# Altium footprint library C.PcbLib: 24 footprints (part 2 of 2)
Each footprint in its own frame and in the unit in brackets; x right, y up, seen from the top. Pads: shape width x height; smd on the part's side, far side on the other; paste and mask are expansions set on the pad; w line width, h text height; cw(c..) or ccw(c..) is an arc to the next point about the centre after c.
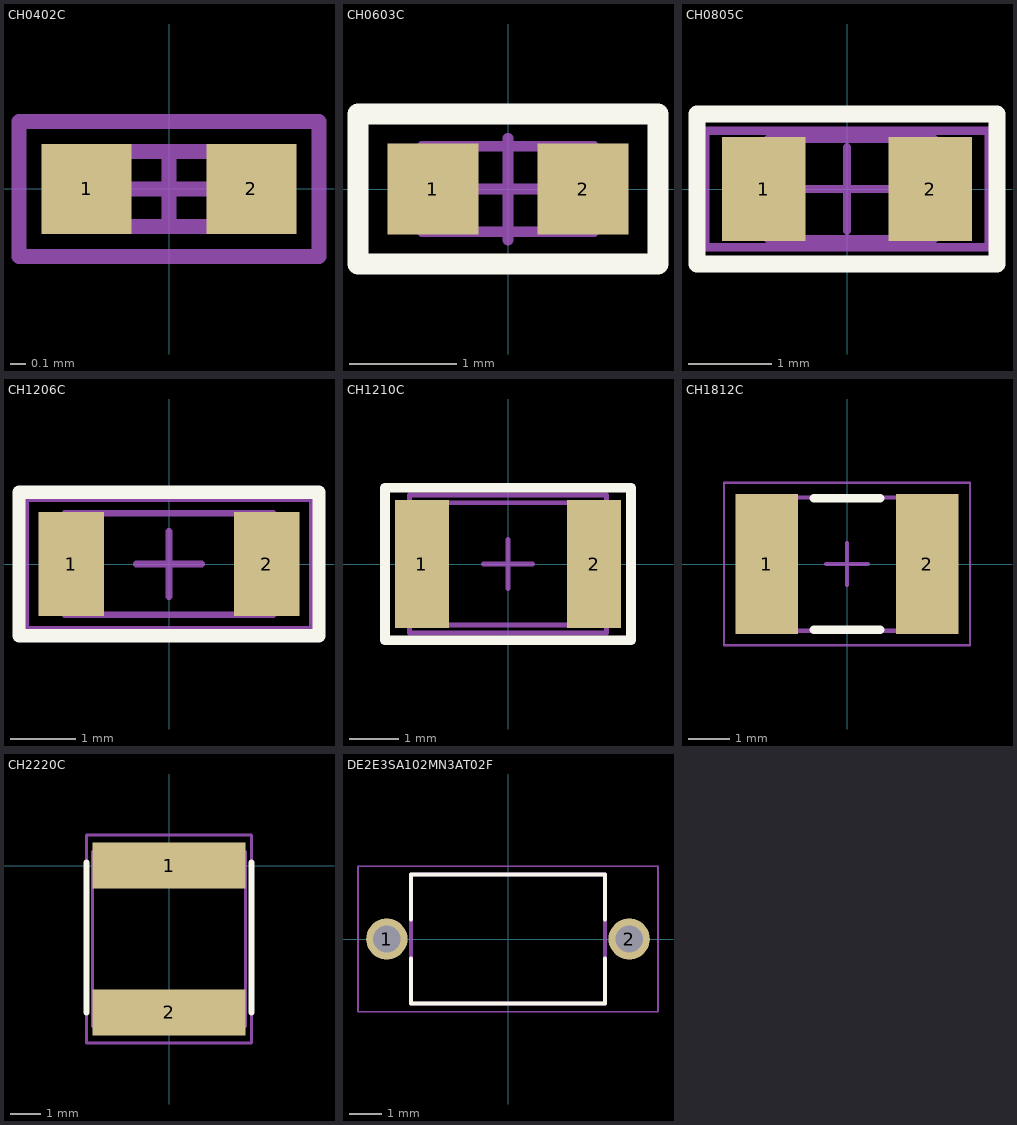
[diagram p1: the footprints below, top view; thin cyan lines are the x and y axes]

## CH0402C [mm]
height 0.35
pads (2):
  rect 0.6x0.6 smd: 1(-0.55,0) 2(0.55,0)
TopAssy:
  lines w0.1: -0.5,-0.25 0.5,-0.25 0.5,0.25 -0.5,0.25 -0.5,-0.25
Border:
  lines w0.1: -0.25,0 0.25,0 ; 0,-0.25 0,0.25 ; -1,-0.45 -1,0.45 1,0.45 1,-0.45 -1,-0.45
3D body "User Library-0402(1005M) Cap.step": height 0.51, standoff 0, extent -0.508,-0.254 0.508,0.254

## CH0603C [mm] "Chip Capacitor, 2-Leads, Body 1,53x0,85mm, IPC Medium Density"
height 0.45
pads (2):
  rect 0.85x0.85 smd: 1(-0.7,0) 2(0.7,0)
Top Overlay:
  lines w0.2: -1.4,-0.7 -1.4,0.7 1.4,0.7 1.4,-0.7 -1.4,-0.7
TopAssy:
  lines w0.1: -0.8,-0.4 -0.8,0.4 0.8,0.4 0.8,-0.4 -0.8,-0.4
Border:
  lines w0.1: -0.475,0 0.475,0 ; 0,-0.475 0,0.475 ; -1.4,-0.7 1.4,-0.7 1.4,0.7 -1.4,0.7 -1.4,-0.7
3D body "SW3dPS-0603 SMD Capacitor.STEP": height 0.3, standoff 0, extent -0.8,-0.4 0.8,0.4

## CH0805C [mm] "Chip Capacitor, 2-Leads, Body 2,00x1,20mm, IPC Medium Density"
height 0.45
pads (2):
  rect 1x1.25 smd: 1(-1,0) 2(1,0)
Top Overlay:
  lines w0.2: -1.8,-0.9 -1.8,0.9 1.8,0.9 1.8,-0.9 -1.8,-0.9
TopAssy:
  lines w0.1: -0.949,-0.6 -0.949,0.6 1.05,0.6 1.05,-0.6 -0.949,-0.6
Border:
  lines w0.1: -0.5,0 0.5,0 ; 0,-0.5 0,0.5 ; -1.7,-0.7 1.7,-0.7 1.7,0.7 -1.7,0.7 -1.7,-0.7
3D body "SW3dPS-0805 SMD Capacitor.STEP": height 0.78, standoff 0, extent -1,-0.625 1,0.625

## CH1206C [mm] "Non polar chip capacitor, size 1206"
height 0.6
pads (2):
  rect 1x1.6 smd: 1(-1.5,0) 2(1.5,0)
Top Overlay:
  lines w0.2: -2.3,-1.1 -2.3,1.1 2.3,1.1 2.3,-1.1 -2.3,-1.1
TopAssy:
  lines w0.1: -1.6,-0.775 -1.6,0.775 1.6,0.775 1.6,-0.775 -1.6,-0.775
Border:
  lines w0.1: -0.5,0 0.5,0 ; 0,-0.5 0,0.5 ; -2.2,-1 2.2,-1 2.2,1 -2.2,1 -2.2,-1
3D body "SW3dPS-1206 SMD Capacitor.STEP": height 1, standoff 0, extent -1.6,-0.8 1.6,0.8

## CH1210C [mm] "Non polar chip capacitor, size 1210"
height 2.5
pads (2):
  rect 1.1x2.6 smd: 1(-1.75,0) 2(1.75,0)
Top Overlay:
  lines w0.2: -2.5,-1.55 -2.5,1.55 2.5,1.55 2.5,-1.55 -2.5,-1.55
TopAssy:
  lines w0.1: -2,-1.244 2,-1.244 2,1.245 -2,1.245 -2,-1.244
Border:
  lines w0.1: -0.5,0 0.5,0 ; 0,-0.5 0,0.5 ; -2,-1.4 -2,1.4 2,1.4 2,-1.4 -2,-1.4
3D body "User Library-1210(3225M) Cap.STEP": height 1.7, standoff 0, extent -2,-1.244 2,1.245

## CH1812C [mm]
height 1.4
pads (2):
  rect 1.5x3.35 smd: 1(-1.925,0) 2(1.925,0)
Top Overlay:
  lines w0.2: -0.8,-1.575 0.8,-1.575 ; -0.8,1.575 0.8,1.575
TopAssy:
  lines w0.1: -2.25,-1.6 2.25,-1.6 2.25,1.6 -2.25,1.6 -2.25,-1.6
Border:
  lines w0.05: -2.95,-1.95 2.95,-1.95 2.95,1.95 -2.95,1.95 -2.95,-1.95
  lines w0.1: -0.5,0 0.5,0 ; 0,-0.5 0,0.5
3D body "SW3dPS-1812 SMD Capacitor.STEP": height 1.6, standoff 0, extent -2.25,-1.6 2.25,1.6

## CH2220C [mm]
pads (2):
  rect 5x1.5 smd: 1(0,0) 2(0,-4.8)
Top Overlay:
  lines w0.2: -2.7,-4.8 -2.7,0.1 ; 2.7,-4.8 2.7,0.1
TopAssy:
  lines w0.1: -2.5,-5.25 2.5,-5.25 2.5,0.45 -2.5,0.45 -2.5,-5.25
Border:
  lines w0.1: -2.7,-5.8 -2.7,1 -2,1 2.7,1 2.7,-5.8 -2.7,-5.8
3D body "User Library-CAPC5750X23.STEP": height 2.3, standoff 0, extent -2.5,-5.25 2.5,0.45

## DE2E3SA102MN3AT02F [mm] "CAP CER 1000PF 250V RADIAL"
pads (2):
  round 1.28 hole 0.85: 1(-3.75,0) 2(3.75,0)
Top Overlay:
  lines w0.127: -3,-0.6 -3,-2 3,-2 3,-0.6 ; -3,0.6 -3,2 3,2 3,0.6
3D:
  lines w0.127: -3,-2 -3,2 3,2 3,-2 -3,-2
Border:
  lines w0.05: -4.64,-2.25 -4.64,2.25 4.64,2.25 4.64,-2.25 -4.64,-2.25
3D body "step_temp.STEP": height 9, standoff -25, extent -4.08,-2.997 4.08,2.997